# Altium integrated library LM317DCYG3.IntLib: 1 symbol
Pins are listed as number, name and electrical type; pins without a type are passive.

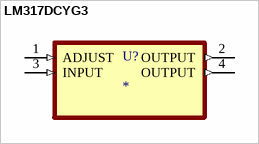
[diagram p0: symbol LM317DCYG3]

## LM317DCYG3
designator U?
1.5-A, 40-V, adjustable linear voltage regulator 4-SOT-223 0 to 125; MP: LM317DCYG3; MF: Texas Instruments; Value: *; Check_prices: https://www.snapeda.com/parts/LM317DCYG3/Texas+Instruments/view-part/?ref=eda; Package: SOT-223-4 Texas Instruments; Price: None; Availability: In Stock; SnapEDA_Link: https://www.snapeda.com/parts/LM317DCYG3/Texas+Instruments/view-part/?ref=snap; Purchase-URL: https://pricing.snapeda.com/search/part/LM317DCYG3/?ref=eda
footprint SOT230P700X180-4N
pins: 1 ADJUST (in), 2 OUTPUT (out), 3 INPUT (in), 4 OUTPUT (out)